# EAGLE library part RP710 (library relay)
RELAY 2 x switch, Schrack
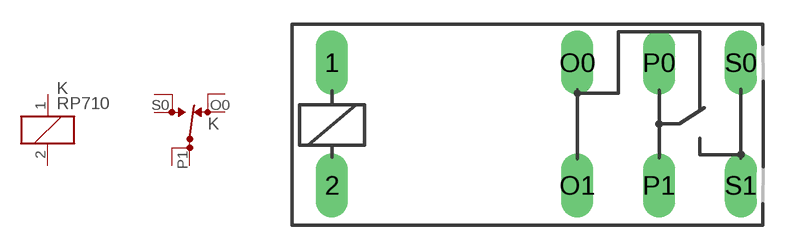
[diagram p1: symbol with the pads of RP710; footprint RP710]

Designator prefix K; gates 1=K 2=UD

## RP710  [RP710]
1  1:1  pas
2  1:2  pas
O0  2:NC  pas
O1  2:NC  pas
P0  2:COM  pas
P1  2:COM  pas
S0  2:NO  pas
S1  2:NO  pas

## Footprint RP710 (pad centres in mm)
RELAY 2 x switch, Schrack
drill 1.321 long: 1 -3.81,3.81; 2 -3.81,-3.81; O0 11.43,3.81; O1 11.43,-3.81; P0 16.51,3.81; P1 16.51,-3.81; S0 21.59,3.81; S1 21.59,-3.81